# EAGLE library part MSP430F2132TPW (library OLED Watch Original Library)
MIXED SIGNAL MICROCONTROLLER
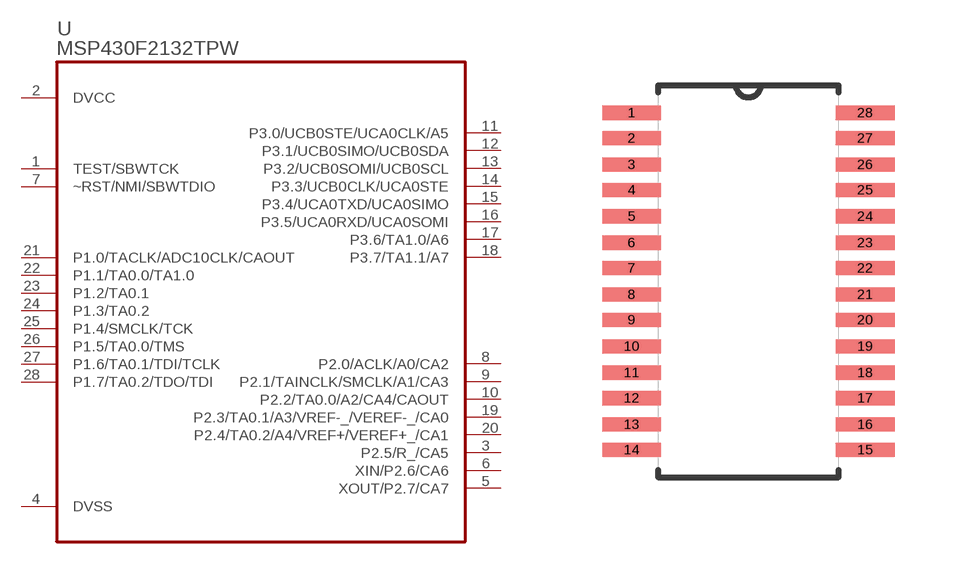
[diagram p3: symbol with the pads of SOP-28N; footprint SOP-28N]

Designator prefix U

## MSP430F2132TPW  [SOP-28N]
1  TEST/SBWTCK  in
2  DVCC  pwr
3  P2.5/R_/CA5
4  DVSS  pas
5  XOUT/P2.7/CA7
6  XIN/P2.6/CA6
7  ~RST/NMI/SBWTDIO  in
8  P2.0/ACLK/A0/CA2
9  P2.1/TAINCLK/SMCLK/A1/CA3
10  P2.2/TA0.0/A2/CA4/CAOUT
11  P3.0/UCB0STE/UCA0CLK/A5
12  P3.1/UCB0SIMO/UCB0SDA
13  P3.2/UCB0SOMI/UCB0SCL
14  P3.3/UCB0CLK/UCA0STE
15  P3.4/UCA0TXD/UCA0SIMO
16  P3.5/UCA0RXD/UCA0SOMI
17  P3.6/TA1.0/A6
18  P3.7/TA1.1/A7
19  P2.3/TA0.1/A3/VREF-_/VEREF-_/CA0
20  P2.4/TA0.2/A4/VREF+/VEREF+_/CA1
21  P1.0/TACLK/ADC10CLK/CAOUT
22  P1.1/TA0.0/TA1.0
23  P1.2/TA0.1
24  P1.3/TA0.2
25  P1.4/SMCLK/TCK
26  P1.5/TA0.0/TMS
27  P1.6/TA0.1/TDI/TCLK
28  P1.7/TA0.2/TDO/TDI

## Footprint SOP-28N (pad centres in mm)
smd 1.473 x 0.356: 1 -2.921,4.216; 2 -2.921,3.581; 3 -2.921,2.921; 4 -2.921,2.286; 5 -2.921,1.626; 6 -2.921,0.965; 7 -2.921,0.33; 8 -2.921,-0.33; 9 -2.921,-0.965; 10 -2.921,-1.626; 11 -2.921,-2.286; 12 -2.921,-2.921; 13 -2.921,-3.581; 14 -2.921,-4.216; 15 2.921,-4.216; 16 2.921,-3.581; 17 2.921,-2.921; 18 2.921,-2.286; 19 2.921,-1.626; 20 2.921,-0.965; 21 2.921,-0.33; 22 2.921,0.33; 23 2.921,0.965; 24 2.921,1.626; 25 2.921,2.286; 26 2.921,2.921; 27 2.921,3.581; 28 2.921,4.216